# EAGLE library part BALUN (library BaseApp)
Digikey No :- __712-1540-1-ND__
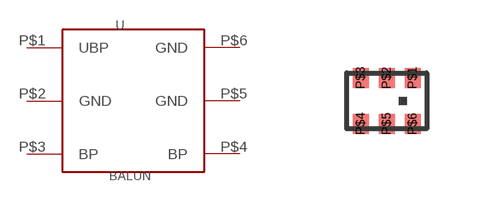
[diagram p122: symbol with the pads of BALUN-JTI; footprint BALUN-JTI]

Designator prefix -

## BALUN  [BALUN-JTI]
P$1  UBP
P$2  GND
P$3  BP
P$4  BP
P$5  GND
P$6  GND

## Footprint BALUN-JTI (pad centres in mm)
smd 0.4 x 0.5: P$1 0.65,0.575; P$2 0,0.575; P$3 -0.65,0.575; P$4 -0.65,-0.575; P$5 0,-0.575; P$6 0.65,-0.575